# Altium schematic symbol library U_LMV431A.SchLib: 1 symbol
Pins are listed as number, name and electrical type; pins without a type are passive.

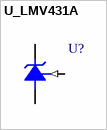
[diagram p0: symbol U_LMV431A]

## U_LMV431A
designator U?
pins: 1 REF (in), 2 CATHODE, 3 ANODE